# EAGLE library part MK20DX256 (library T2M_4_0)
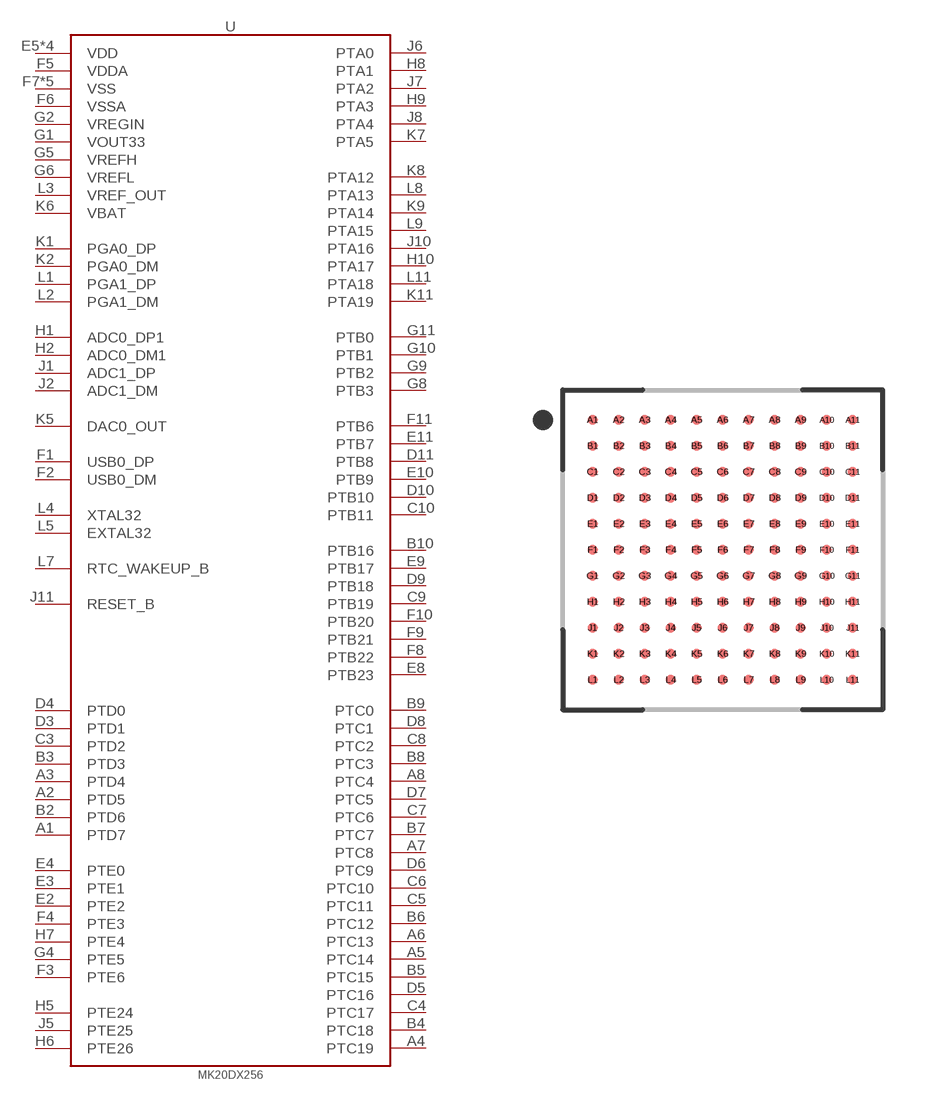
[diagram p6: symbol with the pads of BGA-121-8MM; footprint BGA-121-8MM]

Designator prefix -

## MK20DX256  [BGA-121-8MM]
A1  PTD7
A2  PTD5
A3  PTD4
A4  PTC19
A5  PTC14
A6  PTC13
A7  PTC8
A8  PTC4
B2  PTD6
B3  PTD3
B4  PTC18
B5  PTC15
B6  PTC12
B7  PTC7
B8  PTC3
B9  PTC0
B10  PTB16
C3  PTD2
C4  PTC17
C5  PTC11
C6  PTC10
C7  PTC6
C8  PTC2
C9  PTB19
C10  PTB11
D3  PTD1
D4  PTD0
D5  PTC16
D6  PTC9
D7  PTC5
D8  PTC1
D9  PTB18
D10  PTB10
D11  PTB8
E2  PTE2
E3  PTE1
E4  PTE0
E5  VDD
E6  VDD
E7  VDD
E8  PTB23
E9  PTB17
E10  PTB9
E11  PTB7
F1  USB0_DP
F2  USB0_DM
F3  PTE6
F4  PTE3
F5  VDDA
F6  VSSA
F7  VSS
F8  PTB22
F9  PTB21
F10  PTB20
F11  PTB6
G1  VOUT33
G2  VREGIN
G3  VSS
G4  PTE5
G5  VREFH
G6  VREFL
G7  VSS
G8  PTB3
G9  PTB2
G10  PTB1
G11  PTB0
H1  ADC0_DP1
H2  ADC0_DM1
H5  PTE24
H6  PTE26
H7  PTE4
H8  PTA1
H9  PTA3
H10  PTA17
J1  ADC1_DP
J2  ADC1_DM
J5  PTE25
J6  PTA0
J7  PTA2
J8  PTA4
J10  PTA16
J11  RESET_B
K1  PGA0_DP
K2  PGA0_DM
K5  DAC0_OUT
K6  VBAT
K7  PTA5
K8  PTA12
K9  PTA14
K10  VSS
K11  PTA19
L1  PGA1_DP
L2  PGA1_DM
L3  VREF_OUT
L4  XTAL32
L5  EXTAL32
L6  VSS
L7  RTC_WAKEUP_B
L8  PTA13
L9  PTA15
L10  VDD
L11  PTA18

## Footprint BGA-121-8MM (pad centres in mm)
121-BGA, collapsing, 0.65 mm pitch, 8.00 X 8.00 X 1.52 mm body 121-pin collapsing BGA package with 0.65 mm col pitch and 0.65 mm row pitch with body size 8.00 X 8.00 X 1.52 mm
smd 0.25 x 0.25: A1 -3.25,3.25; A2 -2.6,3.25; A3 -1.95,3.25; A4 -1.3,3.25; A5 -0.65,3.25; A6 0,3.25; A7 0.65,3.25; A8 1.3,3.25; A9 1.95,3.25; A10 2.6,3.25; A11 3.25,3.25; B1 -3.25,2.6; B2 -2.6,2.6; B3 -1.95,2.6; B4 -1.3,2.6; B5 -0.65,2.6; B6 0,2.6; B7 0.65,2.6; B8 1.3,2.6; B9 1.95,2.6; B10 2.6,2.6; B11 3.25,2.6; C1 -3.25,1.95; C2 -2.6,1.95; C3 -1.95,1.95; C4 -1.3,1.95; C5 -0.65,1.95; C6 0,1.95; C7 0.65,1.95; C8 1.3,1.95; C9 1.95,1.95; C10 2.6,1.95; C11 3.25,1.95; D1 -3.25,1.3; D2 -2.6,1.3; D3 -1.95,1.3; D4 -1.3,1.3; D5 -0.65,1.3; D6 0,1.3; D7 0.65,1.3; D8 1.3,1.3; D9 1.95,1.3; D10 2.6,1.3; D11 3.25,1.3; E1 -3.25,0.65; E2 -2.6,0.65; E3 -1.95,0.65; E4 -1.3,0.65; E5 -0.65,0.65; E6 0,0.65; E7 0.65,0.65; E8 1.3,0.65; E9 1.95,0.65; E10 2.6,0.65; E11 3.25,0.65; F1 -3.25,0; F2 -2.6,0; F3 -1.95,0; F4 -1.3,0; F5 -0.65,0; F6 0,0; F7 0.65,0; F8 1.3,0; F9 1.95,0; F10 2.6,0; F11 3.25,0; G1 -3.25,-0.65; G2 -2.6,-0.65; G3 -1.95,-0.65; G4 -1.3,-0.65; G5 -0.65,-0.65; G6 0,-0.65; G7 0.65,-0.65; G8 1.3,-0.65; G9 1.95,-0.65; G10 2.6,-0.65; G11 3.25,-0.65; H1 -3.25,-1.3; H2 -2.6,-1.3; H3 -1.95,-1.3; H4 -1.3,-1.3; H5 -0.65,-1.3; H6 0,-1.3; H7 0.65,-1.3; H8 1.3,-1.3; H9 1.95,-1.3; H10 2.6,-1.3; H11 3.25,-1.3; J1 -3.25,-1.95; J2 -2.6,-1.95; J3 -1.95,-1.95; J4 -1.3,-1.95; J5 -0.65,-1.95; J6 0,-1.95; J7 0.65,-1.95; J8 1.3,-1.95; J9 1.95,-1.95; J10 2.6,-1.95; J11 3.25,-1.95; K1 -3.25,-2.6; K2 -2.6,-2.6; K3 -1.95,-2.6; K4 -1.3,-2.6; K5 -0.65,-2.6; K6 0,-2.6; K7 0.65,-2.6; K8 1.3,-2.6; K9 1.95,-2.6; K10 2.6,-2.6; K11 3.25,-2.6; L1 -3.25,-3.25; L2 -2.6,-3.25; L3 -1.95,-3.25; L4 -1.3,-3.25; L5 -0.65,-3.25; L6 0,-3.25; L7 0.65,-3.25; L8 1.3,-3.25; L9 1.95,-3.25; L10 2.6,-3.25; L11 3.25,-3.25